# EAGLE library part FT4232H_MINI_MODULE (library FT4232H_MINI_MODULE)
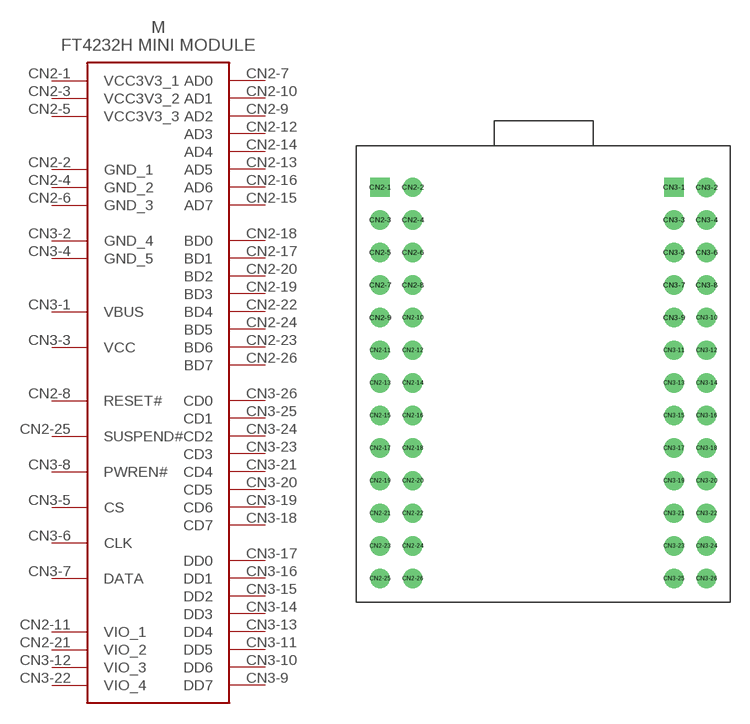
[diagram p0: symbol with the pads of FT4232H_MINI_MODULE; footprint FT4232H_MINI_MODULE]

Designator prefix M

## FT4232H_MINI_MODULE  [FT4232H_MINI_MODULE]
CN2-1  VCC3V3_1
CN2-2  GND_1
CN2-3  VCC3V3_2
CN2-4  GND_2
CN2-5  VCC3V3_3
CN2-6  GND_3
CN2-7  AD0
CN2-8  RESET#
CN2-9  AD2
CN2-10  AD1
CN2-11  VIO_1
CN2-12  AD3
CN2-13  AD5
CN2-14  AD4
CN2-15  AD7
CN2-16  AD6
CN2-17  BD1
CN2-18  BD0
CN2-19  BD3
CN2-20  BD2
CN2-21  VIO_2
CN2-22  BD4
CN2-23  BD6
CN2-24  BD5
CN2-25  SUSPEND#
CN2-26  BD7
CN3-1  VBUS
CN3-2  GND_4
CN3-3  VCC
CN3-4  GND_5
CN3-5  CS
CN3-6  CLK
CN3-7  DATA
CN3-8  PWREN#
CN3-9  DD7
CN3-10  DD6
CN3-11  DD5
CN3-12  VIO_3
CN3-13  DD4
CN3-14  DD3
CN3-15  DD2
CN3-16  DD1
CN3-17  DD0
CN3-18  CD7
CN3-19  CD6
CN3-20  CD5
CN3-21  CD4
CN3-22  VIO_4
CN3-23  CD3
CN3-24  CD2
CN3-25  CD1
CN3-26  CD0

## Footprint FT4232H_MINI_MODULE (pad centres in mm)
drill 1 square: CN2-1 -12.715,16.51; CN3-1 10.175,16.51
drill 1: CN2-2 -10.175,16.51; CN2-3 -12.715,13.97; CN2-4 -10.175,13.97; CN2-5 -12.715,11.43; CN2-6 -10.175,11.43; CN2-7 -12.715,8.89; CN2-8 -10.175,8.89; CN2-9 -12.715,6.35; CN2-10 -10.175,6.35; CN2-11 -12.715,3.81; CN2-12 -10.175,3.81; CN2-13 -12.715,1.27; CN2-14 -10.175,1.27; CN2-15 -12.715,-1.27; CN2-16 -10.175,-1.27; CN2-17 -12.715,-3.81; CN2-18 -10.175,-3.81; CN2-19 -12.715,-6.35; CN2-20 -10.175,-6.35; CN2-21 -12.715,-8.89; CN2-22 -10.175,-8.89; CN2-23 -12.715,-11.43; CN2-24 -10.175,-11.43; CN2-25 -12.715,-13.97; CN2-26 -10.175,-13.97; CN3-2 12.715,16.5; CN3-3 10.175,13.97; CN3-4 12.715,13.97; CN3-5 10.175,11.43; CN3-6 12.715,11.43; CN3-7 10.175,8.89; CN3-8 12.715,8.89; CN3-9 10.175,6.35; CN3-10 12.715,6.35; CN3-11 10.175,3.81; CN3-12 12.715,3.81; CN3-13 10.175,1.27; CN3-14 12.715,1.27; CN3-15 10.175,-1.27; CN3-16 12.715,-1.27; CN3-17 10.175,-3.81; CN3-18 12.715,-3.81; CN3-19 10.175,-6.35; CN3-20 12.715,-6.35; CN3-21 10.175,-8.89; CN3-22 12.715,-8.89; CN3-23 10.175,-11.43; CN3-24 12.715,-11.43; CN3-25 10.175,-13.97; CN3-26 12.715,-13.97